# Altium integrated library TPS73433DRVR.IntLib: 1 symbol
Pins are listed as number, name and electrical type; pins without a type are passive.

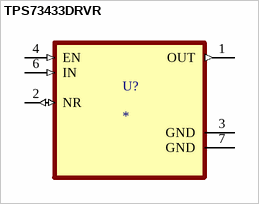
[diagram p0: symbol TPS73433DRVR]

## TPS73433DRVR
designator U?
250-mA, low-IQ, low-dropout voltage regulator with enable; MF: Texas Instruments; MP: TPS73433DRVR; SnapEDA_Link: https://www.snapeda.com/parts/TPS73433DRVR/Texas+Instruments/view-part/?ref=snap; Package: WSON-6 Texas Instruments; Value: *; Check_prices: https://www.snapeda.com/parts/TPS73433DRVR/Texas+Instruments/view-part/?ref=eda
footprint SON65P200X200X80-7N
pins: 1 OUT (out), 2 NR (io), 3 GND (power), 4 EN (in), 6 IN (in), 7 GND (power)